# EAGLE library part 74*573 (library we-chip)
74*573 Octal D-type Latch (3-State) HC - VCC: 2-5.5V - Input: High 2.1V @ 3V / 3.5V @ 5V AHC - VCC: 2-5.5V - Input: 5V tolerant, High 2.1V @ 3V / 3.5V @ 5V HCT - VCC: 4.5-5.5V - Input: High 2V @ 5V AHCT - VCC: 4.5-5.5V - Input: High 2V @ 5V
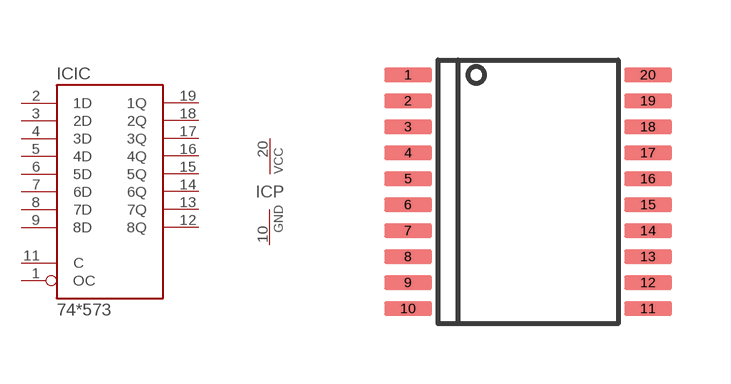
[diagram p58: symbol with the pads of TSSOP20; footprint TSSOP20]

Designator prefix IC; gates IC=74573 P=GATE_PWR

## 74HC573PW  [TSSOP20]
1  IC:OC  in
2  IC:1D  in
3  IC:2D  in
4  IC:3D  in
5  IC:4D  in
6  IC:5D  in
7  IC:6D  in
8  IC:7D  in
9  IC:8D  in
10  P:GND  pwr
11  IC:C  in
12  IC:8Q  hiz
13  IC:7Q  hiz
14  IC:6Q  hiz
15  IC:5Q  hiz
16  IC:4Q  hiz
17  IC:3Q  hiz
18  IC:2Q  hiz
19  IC:1Q  hiz
20  P:VCC  pwr

## Footprint TSSOP20 (pad centres in mm)
smd 1.2 x 0.35: 1 -3,2.925; 2 -3,2.275; 3 -3,1.625; 4 -3,0.975; 5 -3,0.325; 6 -3,-0.325; 7 -3,-0.975; 8 -3,-1.625; 9 -3,-2.275; 10 -3,-2.925; 11 3,-2.925; 12 3,-2.275; 13 3,-1.625; 14 3,-0.975; 15 3,-0.325; 16 3,0.325; 17 3,0.975; 18 3,1.625; 19 3,2.275; 20 3,2.925